# Altium schematic symbol library RHOY.SchLib: 38 symbols
Pins are listed as number, name and electrical type; pins without a type are passive.

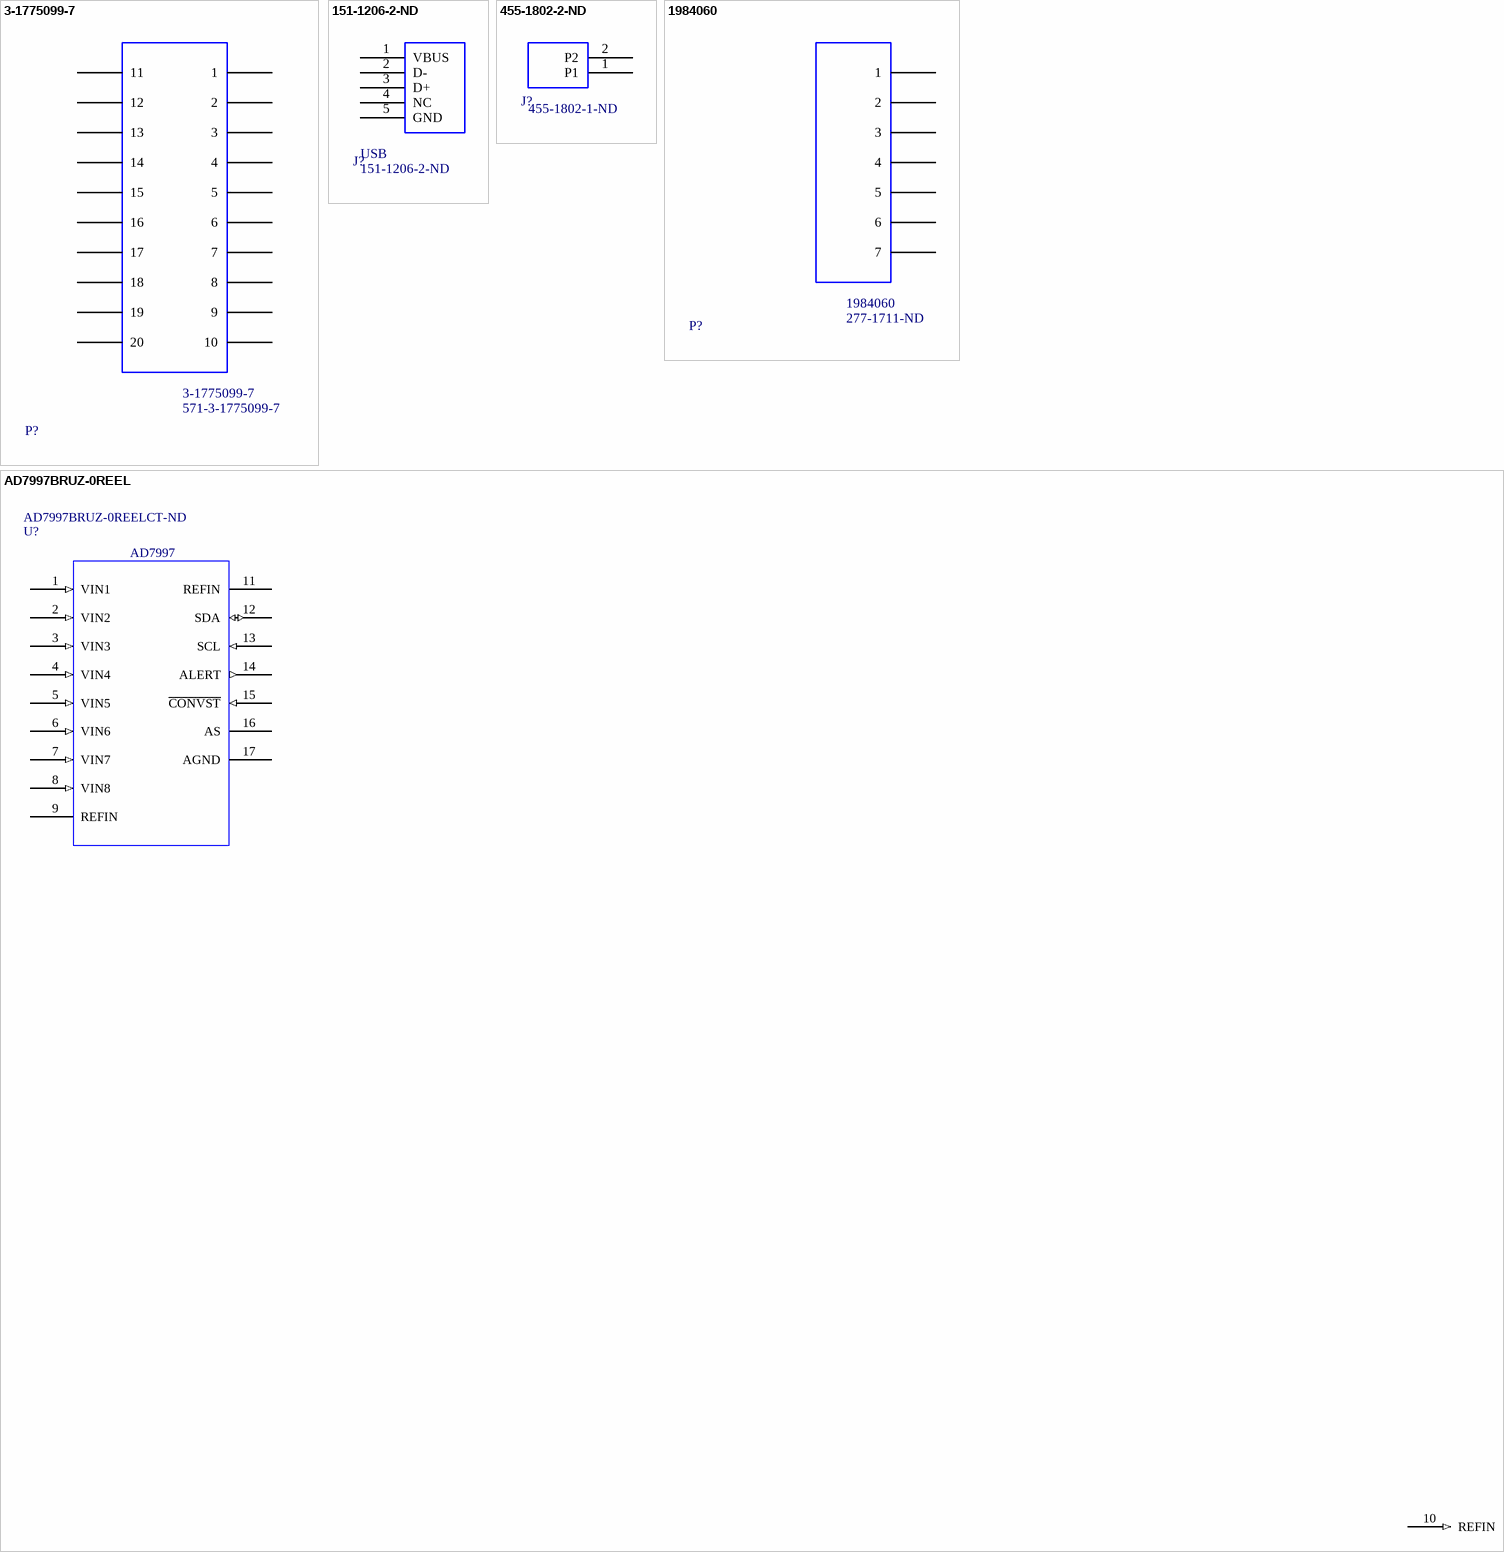
[diagram p0: symbols 3-1775099-7 to AD7997BRUZ-0REEL]

## 3-1775099-7
designator P?  Supplier Part Number 1: 571-3-1775099-7  (hidden comment: 3-1775099-7)
TE Connectivity AMP Connectors; Manufacturer: TE Connectivity / AMP; Supplier 1: Mouser; Manufacturer Part Number: 3-1775099-7; RoHS: RoHS Compliant; Category: Power to the Board; Stock 1: 0; Pricing 1: 6000=0.383 (USD); Packaging: Bulk; Brand: TE Connectivity / AMP; RoHS - Mouser: Y; Minimum Order Quantity: 6000; Reeling: False; ComponentLink1URL: http://www.mouser.com/ds/2/418/NG_CD_1775099_F-617773.pdf; ComponentLink1Description: http://www.mouser.com/ds/2/418/NG_CD_1775099_F-617773.pdf; Value: 3-1775099-7
pins: 1, 2, 3, 4, 5, 6, 7, 8, 9, 10, 11, 12, 13, 14, 15, 16, 17, 18, 19, 20

## 151-1206-2-ND
designator J?  value USB  Supplier Part Number 1: 151-1206-2-ND
Mini USB B port; Manufacturer: EDAC Inc.; Manufacturer Part Number: 690-005-299-043; Connector Type: USB - mini B; Number of Contacts: 5; Gender: Receptacle; Supplier 1: Digi-Key; RoHS: RoHS Compliant; Category: Connectors, Interconnects; Stock 1: 28500; Pricing 1: 750=0.185, 1500=0.166, 3750=0.16, 5250=0.15, 18750=0.135, 37500=0.133, 75000=0.13 (USD); Packaging: Tape & Reel (TR); Specifications: -; Mounting Type: Surface Mount, Right Angle, Horizontal; Features: Board Guide, Solder Retention; Ingress Protection: -; ComponentLink1URL: http://media.digikey.com/pdf/Data%20Sheets/EDAC%20PDFs/690-005-299-043_Dwg.pdf; ComponentLink1Description: http://media.digikey.com/pdf/Data%20Sheets/EDAC%20PDFs/690-005-299-043_Dwg.pdf
pins: 1 VBUS, 2 D-, 3 D+, 4 NC, 5 GND

## 455-1802-2-ND
designator J?  Supplier Part Number 1: 455-1802-1-ND  (hidden comment: 455-1802-2-ND)
JST connector for LiPoly battery; Manufacturer: JST Sales America Inc.; Manufacturer Part Number: SM02B-SRSS-TB(LF)(SN); Connector Type: Header, Shrouded; Number of Positions: 2; Number of Positions Loaded: All; Pitch: 0.039" (1.00mm); Supplier 1: Digi-Key; RoHS: RoHS Compliant; Category: Connectors, Interconnects; Stock 1: 94260; Pricing 1: 1=0.51, 10=0.485, 25=0.4156, 50=0.3532, 100=0.3393, 250=0.30468, 500=0.29084, 1000=0.24237 (USD); Packaging: Cut Tape (CT); Contact Type: Male Pin; Number of Rows: 1; Row Spacing: -; Contact Mating Length: -; Mounting Type: Surface Mount, Right Angle; Termination: Solder; Fastening Type: -; Features: Solder Retention; Contact Finish: Tin; Contact Finish Thickness: -; Color: Natural; ComponentLink1URL: http://www.jst-mfg.com/product/pdf/eng/eSH.pdf; ComponentLink1Description: http://www.jst-mfg.com/product/pdf/eng/eSH.pdf
pins: 1 P1, 2 P2

## 1984060
designator P?  Supplier Part Number 1: 277-1711-ND  (hidden comment: 1984060)
Phoenix Contact 1984060; Number of Positions: 7; Number of Levels: 1; Pitch: 0.138" (3.50mm); Plug Wire Entry: 90° and 180°; Current - IEC: 8A; Voltage - IEC: 400V; Current - UL: 10A; Voltage - UL: 300V; Wire Gauge or Range - AWG: 16-26 AWG; Wire Gauge or Range - mm²: 0.2-1.5mm²; Supplier 1: Digi-Key; Manufacturer: Phoenix Contact; Manufacturer Part Number: 1984060; RoHS: RoHS Compliant; Category: Connectors, Interconnects; Stock 1: 1429; Pricing 1: 1=1.38, 10=1.32, 50=1.284, 100=1.2, 250=1.104, 500=1.02 (USD); Packaging: Bulk; Type: Plug for Unshrouded Header; Positions Per Level: 7; Header Orientation: -; Termination Style: Screw - Clamping Yoke (Tension Sleeve); Mounting Type: Free Hanging (In-Line); Color: Green; Operating Temperature: -; Contact Mating Finish: Tin; Features: -; ComponentLink1URL: http://media.digikey.com/pdf/Data%20Sheets/Phoenix%20Contact%20PDFs/Combicon%20Compact%20Series.pdf; ComponentLink1Description: http://media.digikey.com/pdf/Data%20Sheets/Phoenix%20Contact%20PDFs/Combicon%20Compact%20Series.pdf; Value: 1984060
pins: 1, 2, 3, 4, 5, 6, 7

## AD7997BRUZ-0REEL
designator U?  value AD7997  Supplier Part Number 1: AD7997BRUZ-0REELCT-ND  (hidden comment: AD7997BRUZ-0REEL)
ADC- 8 channel for flex sensors; Manufacturer: Analog Devices Inc.; Number of Bits: 10; Sampling Rate (Per Second): 188k; Number of Inputs: 8; Input Type: Single Ended; Data Interface: I²C; Configuration: MUX-S/H-ADC; Ratio - S/H:ADC: 1:1; Number of A/D Converters: 1; Architecture: SAR; Reference Type: External; Voltage - Supply, Analog: 2.7 V ~ 5.5 V; Supplier 1: Digi-Key; Manufacturer Part Number: AD7997BRUZ-0REEL; RoHS: RoHS Compliant; Category: Integrated Circuits (ICs); Stock 1: 3543; Pricing 1: 1=5.65, 10=5.074, 100=4.1627, 500=3.54142, 1000=2.98224 (USD); Packaging: Cut Tape (CT); Voltage - Supply, Digital: 2.7 V ~ 5.5 V; Features: -; Operating Temperature: -40°C ~ 85°C; Package / Case: 20-TSSOP (0.173", 4.40mm Width); Supplier Device Package: 20-TSSOP; ComponentLink1URL: http://www.analog.com/media/en/technical-documentation/data-sheets/AD7997_7998.pdf; ComponentLink1Description: http://www.analog.com/media/en/technical-documentation/data-sheets/AD7997_7998.pdf
pins: 1 VIN1 (in), 2 VIN2 (in), 3 VIN3 (in), 4 VIN4 (in), 5 VIN5 (in), 6 VIN6 (in), 7 VIN7 (in), 8 VIN8 (in), 9 REFIN, 10 REFIN (in), 11 REFIN, 12 SDA (io), 13 SCL (in), 14 ALERT (out), 15 ~{CONVST} (in), 16 AS, 17 AGND

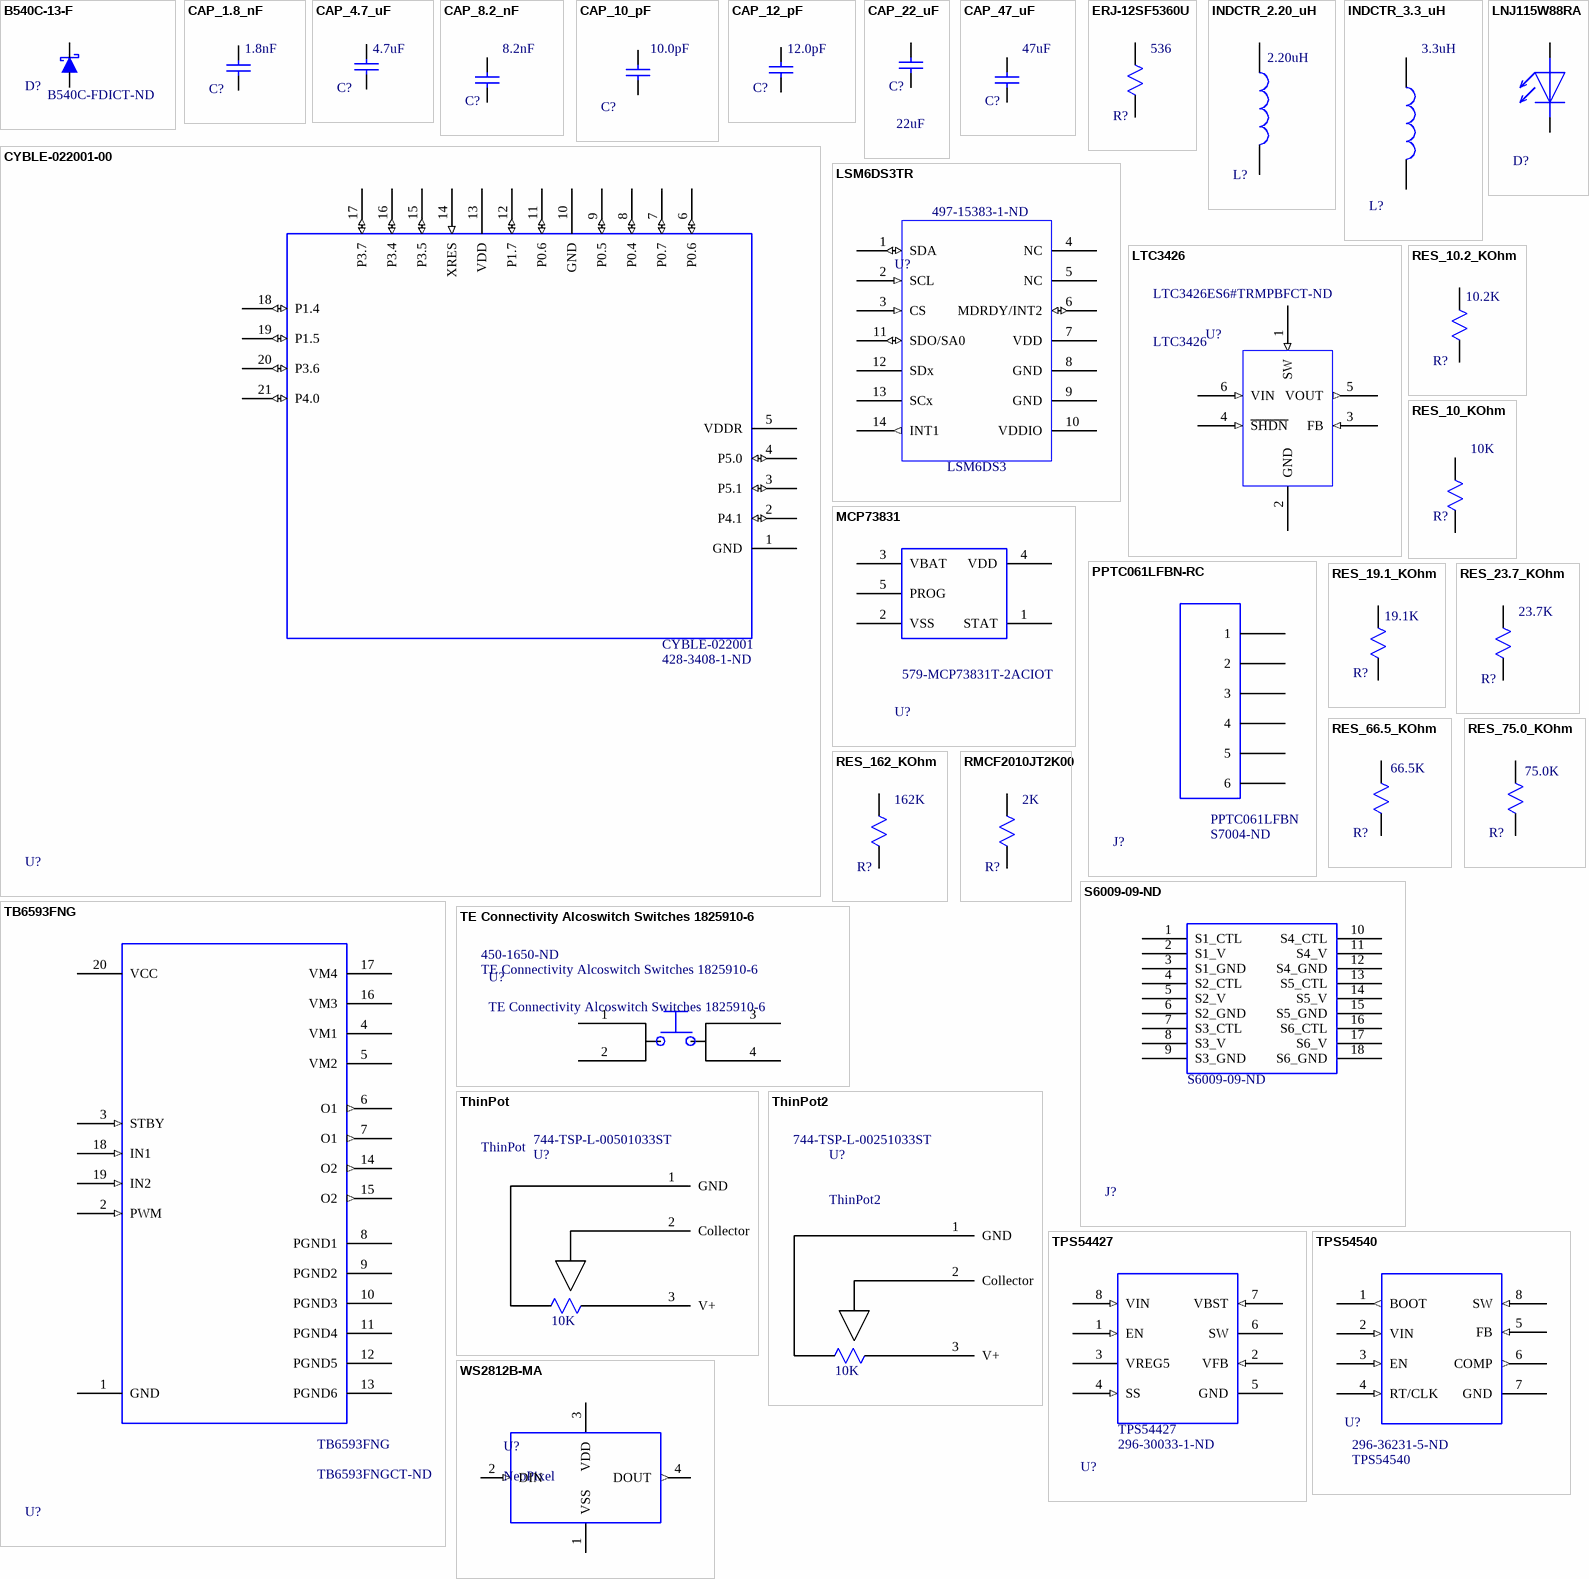
[diagram p1: symbols B540C-13-F to WS2812B-MA]

## B540C-13-F
designator D?  Supplier Part Number 1: B540C-FDICT-ND  (hidden comment: *)
5A pwr regulator diode; Manufacturer: Diodes Incorporated; Manufacturer Part Number: B540C-13-F; Diode Type: Schottky; Voltage - DC Reverse (Vr) (Max): 40V; Voltage - Forward (Vf) (Max) @ If: 550mV @ 5A; Speed: Fast Recovery =< 500ns, > 200mA (Io); Current - Reverse Leakage @ Vr: 500µA @ 40V; Capacitance @ Vr, F: 300pF @ 4V, 1MHz; Supplier 1: Digi-Key; RoHS: RoHS Compliant; Category: Discrete Semiconductor Products; Stock 1: 29411; Pricing 1: 1=0.5, 10=0.426, 100=0.3179, 500=0.2497, 1000=0.1925 (USD); Packaging: Cut Tape (CT); Current - Average Rectified (Io): 5A; Reverse Recovery Time (trr): -; Mounting Type: Surface Mount; Package / Case: DO-214AB, SMC; Supplier Device Package: SMC; Operating Temperature - Junction: -55°C ~ 125°C; ComponentLink1URL: http://www.diodes.com/_files/datasheets/ds13012.pdf; ComponentLink1Description: http://www.diodes.com/_files/datasheets/ds13012.pdf
pins: ?1, ?2

## CAP_1.8_nF
designator C?  value 1.8nF  (hidden comment: CAP_1.8_nF)
CAP_1.8nF; Manufacturer: Murata Electronics North America; Manufacturer Part Number: GRM033R71A182KA01D; Capacitance: 1800pF; Tolerance: ±10%; Voltage - Rated: 10V; Temperature Coefficient: X7R; Supplier 1: Digi-Key; RoHS: RoHS Compliant; Category: Capacitors; Stock 1: 15144; Pricing 1: 1=0.1, 10=0.025, 50=0.0136, 100=0.0116, 250=0.00944, 500=0.00808, 1000=0.0063, 5000=0.00525 (USD); Packaging: Cut Tape (CT); Mounting Type: Surface Mount, MLCC; Operating Temperature: -55°C ~ 125°C; Applications: General Purpose; Ratings: -; Package / Case: 0201 (0603 Metric); Size / Dimension: 0.024" L x 0.012" W (0.60mm x 0.30mm); Height - Seated (Max): -; Thickness (Max): 0.013" (0.33mm); Lead Spacing: -; Features: -; Lead Style: -; ComponentLink1URL: http://www.murata.com/~/media/webrenewal/support/library/catalog/products/capacitor/mlcc/c02e.pdf; ComponentLink1Description: http://www.murata.com/~/media/webrenewal/support/library/catalog/products/capacitor/mlcc/c02e.pdf; Supplier Part Number 1: 490-8160-1-ND
pins: 1, 2

## CAP_4.7_uF
designator C?  value 4.7uF  (hidden comment: CAP_4.7_uF)
CAP_4.7uF; Manufacturer: Kemet; Manufacturer Part Number: C1206C475K4PACTU; Capacitance: 4.7µF; Tolerance: ±10%; Voltage - Rated: 16V; Temperature Coefficient: X5R; Supplier 1: Digi-Key; RoHS: RoHS Compliant; Category: Capacitors; Stock 1: 42893; Pricing 1: 1=0.3, 10=0.205, 50=0.124, 100=0.1042, 250=0.08432, 500=0.0744, 1000=0.06324 (USD); Packaging: Cut Tape (CT); Mounting Type: Surface Mount, MLCC; Operating Temperature: -55°C ~ 85°C; Applications: General Purpose; Ratings: -; Package / Case: 1206 (3216 Metric); Size / Dimension: 0.126" L x 0.063" W (3.20mm x 1.60mm); Height - Seated (Max): -; Thickness (Max): 0.071" (1.80mm); Lead Spacing: -; Features: -; Lead Style: -; ComponentLink1URL: http://www.kemet.com/docfinder?Partnumber=C1206C475K4PACTU; ComponentLink1Description: http://www.kemet.com/docfinder?Partnumber=C1206C475K4PACTU; Supplier Part Number 1: 399-1265-1-ND
pins: 1, 2

## CAP_8.2_nF
designator C?  value 8.2nF  (hidden comment: CAP_8.2_nF)
CAP 8.2; Manufacturer: Murata Electronics; Manufacturer Part Number: GRM033R61A822KA01D; Capacitance: 8200 pF; Tolerance: 10 %; Type: General Purpose MLCC; Voltage Rating DC: 10 VDC; Dielectric: X5R; Supplier 1: Mouser; RoHS: RoHS Compliant; Category: Multilayer Ceramic Capacitors MLCC - SMD/SMT; Stock 1: 45161; Pricing 1: 1=0.100, 10=0.014, 100=0.009, 1000=0.007, 2500=0.006, 15000=0.004, 90000=0.003 (USD); Height: 0.3 mm; Length: 0.6 mm; Package / Case: 0201 (0603 metric); Packaging: Reel; Product: General Type MLCCs; Series: GRM; Termination Style: SMD/SMT; Width: 0.3 mm; Brand: Murata Electronics; Case Code - in: 0201; Case Code - mm: 0603; Maximum Operating Temperature: + 85 C; Minimum Operating Temperature: - 55 C; Standard Pack Qty: 15000; RoHS - Mouser: Y; Minimum Order Quantity: 1; Reeling: True; ComponentLink1URL: http://www.mouser.com/ds/2/281/c02e-2905.pdf; ComponentLink1Description: http://www.mouser.com/ds/2/281/c02e-2905.pdf; Supplier Part Number 1: 81-GRM033R61A822KA1D
pins: 1, 2

## CAP_10_pF
designator C?  value 10.0pF
CAP_10pF; Manufacturer: Kemet; Manufacturer Part Number: C0805C100M4GACTU; Capacitance: 10 pF; Tolerance: 20 %; Type: SMD MLCC C0G 10 - 250 VDC Commercial Grade; Voltage Rating DC: 16 VDC; Class: Class 1; Dielectric: C0G (NP0); Supplier 1: Mouser; RoHS: RoHS Compliant; Category: Multilayer Ceramic Capacitors MLCC - SMD/SMT; Stock 1: 24632; Pricing 1: 1=0.100, 10=0.028, 100=0.017, 1000=0.013, 4000=0.011, 8000=0.010, 24000=0.009, 48000=0.008, 100000=0.007 (USD); Height: -; Length: 2 mm; Package / Case: 0805 (2012 metric); Packaging: Reel; Product: General Type MLCCs; Series: C0805C; Termination Style: SMD/SMT; Voltage Rating AC: -; Width: 1.2 mm; Brand: Kemet; Case Code - in: 0805; Case Code - mm: 2012; Maximum Operating Temperature: + 125 C; Minimum Operating Temperature: - 55 C; Product Category: 0805 SMD Ceramic Chip Capacitors; Standard Pack Qty: 4000; RoHS - Mouser: Y; Minimum Order Quantity: 1; Reeling: True; ComponentLink1URL: http://www.mouser.com/ds/2/212/KEM_C1003_C0G_SMD-356956.pdf; ComponentLink1Description: http://www.mouser.com/ds/2/212/KEM_C1003_C0G_SMD-356956.pdf; Supplier Part Number 1: 80-C0805C100M4G
pins: 1, 2

## CAP_12_pF
designator C?  value 12.0pF  (hidden comment: CAP_12_pF)
CAP_12pF; Manufacturer: Yageo; Manufacturer Part Number: CC0805JRNPO9BN120; Capacitance: 12pF; Tolerance: ±5%; Voltage - Rated: 50V; Temperature Coefficient: C0G, NP0; Supplier 1: Digi-Key; RoHS: RoHS Compliant; Category: Capacitors; Stock 1: 44000; Pricing 1: 4000=0.0128, 8000=0.01169, 12000=0.01113, 28000=0.01057, 100000=0.00765 (USD); Packaging: Tape & Reel (TR); Mounting Type: Surface Mount, MLCC; Operating Temperature: -55°C ~ 125°C; Applications: General Purpose; Ratings: -; Package / Case: 0805 (2012 Metric); Size / Dimension: 0.079" L x 0.049" W (2.00mm x 1.25mm); Height - Seated (Max): -; Thickness (Max): 0.024" (0.60mm); Lead Spacing: -; Features: -; Lead Style: -; ComponentLink1URL: http://www.yageo.com/documents/recent/UPY-GP_NP0_16V-to-50V_10.pdf; ComponentLink1Description: http://www.yageo.com/documents/recent/UPY-GP_NP0_16V-to-50V_10.pdf; Supplier Part Number 1: 311-1100-2-ND
pins: 1, 2

## CAP_22_uF
designator C?  value 22uF  (hidden comment: CAP_22_uF)
CAP 22uF; Manufacturer: AVX; Manufacturer Part Number: 1210YD226KAT2A; Capacitance: 22 F; Capacitance Tolerance: 10%; Dielectric Characteristic: X5; Voltage Rating: 16; Ceramic Capacitor Case: 1210 [3225 Metric]; Supplier 1: Newark; RoHS: YES; Stock 1: 759; Pricing 1: 1=0.2, 10=0.2, 100=0.2, 250=0.2, 500=0.2 (USD); Product Range: -; Packaging: Cut Tape; ComponentLink1URL: http://www.avx.com/docs/Catalogs/cpack.pdf; ComponentLink1Description: http://www.avx.com/docs/Catalogs/cpack.pdf; ComponentLink2URL: http://www.farnell.com/datasheets/1796776.pdf; ComponentLink2Description: http://www.farnell.com/datasheets/1796776.pdf; Supplier Part Number 1: 84K8411
pins: 1, 2

## CAP_47_uF
designator C?  value 47uF  (hidden comment: CAP_47_uF)
CAP 47uF; Manufacturer: TDK Corporation; Manufacturer Part Number: C3216X5R1E476M160AC; Capacitance: 47µF; Tolerance: ±20%; Voltage - Rated: 25V; Temperature Coefficient: X5R; Supplier 1: Digi-Key; RoHS: RoHS Compliant; Category: Capacitors; Stock 1: 119209; Pricing 1: 1=1.25, 10=1.025, 100=0.725, 250=0.6, 500=0.5375, 1000=0.475 (USD); Packaging: Cut Tape (CT); Mounting Type: Surface Mount, MLCC; Operating Temperature: -55°C ~ 85°C; Applications: General Purpose; Ratings: -; Package / Case: 1206 (3216 Metric); Size / Dimension: 0.126" L x 0.063" W (3.20mm x 1.60mm); Height - Seated (Max): -; Thickness (Max): -; Lead Spacing: -; Features: -; Lead Style: -; ComponentLink1URL: https://product.tdk.com/info/en/catalog/datasheets/mlcc_commercial_general_en.pdf; ComponentLink1Description: https://product.tdk.com/info/en/catalog/datasheets/mlcc_commercial_general_en.pdf; Supplier Part Number 1: 445-8047-1-ND
pins: 1, 2

## CYBLE-022001-00
designator U?  value CYBLE-022001  Supplier Part Number 1: 428-3408-1-ND  (hidden comment: CYBLE-022001-00)
EZ-BLE PRoC Module; Manufacturer: Cypress Semiconductor Corp; RF Family/Standard: Bluetooth; Protocol: Bluetooth v4.1 Low Energy (BLE); Frequency: 2.4GHz; Data Rate: 1Mbps; Power - Output: 3dBm; Sensitivity: -91dBm; Serial Interfaces: I²C, SPI, UART; Antenna Type: Integrated, Chip; Memory Size: 128kB Flash, 16kB SRAM; Voltage - Supply: 1.8 V ~ 4.5 V; Current - Receiving: 16.4mA; Current - Transmitting: 15.6mA; Supplier 1: Digi-Key; Manufacturer Part Number: CYBLE-022001-00; RoHS: RoHS Compliant; Category: RF/IF and RFID; Stock 1: 1211; Pricing 1: 1=11.9, 25=10.0084, 100=9.4675, 250=8.656 (USD); Packaging: Cut Tape (CT); Modulation: -; Mounting Type: Surface Mount; Operating Temperature: -40°C ~ 85°C; Package / Case: Module; ComponentLink1URL: http://www.cypress.com/file/140791/download; ComponentLink1Description: http://www.cypress.com/file/140791/download
footprint CYPRESS_CYBLE-022001 (EZ-BLE PRoC Module)
pins: 1 GND, 2 P4.1 (io), 3 P5.1 (io), 4 P5.0 (io), 5 VDDR, 6 P0.6 (io), 7 P0.7 (io), 8 P0.4 (io), 9 P0.5 (io), 10 GND, 11 P0.6 (io), 12 P1.7 (io), 13 VDD, 14 XRES (in), 15 P3.5 (io), 16 P3.4 (io), 17 P3.7 (io), 18 P1.4 (io), 19 P1.5 (io), 20 P3.6 (io), 21 P4.0 (io)

## ERJ-12SF5360U
designator R?  value 536  (hidden comment: *)
536 Ohm Resistor; Manufacturer: Panasonic Electronic Components; Manufacturer Part Number: ERJ-12SF5360U; Tolerance: ±1%; Power (Watts): 0.75W, 3/4W; Temperature Coefficient: ±100ppm/°C; Supplier 1: Digi-Key; RoHS: RoHS Compliant; Category: Resistors; Stock 1: 7146; Pricing 1: 1=0.4, 50=0.1786, 100=0.1324, 250=0.10164, 500=0.08008, 1000=0.05544 (USD); Packaging: Cut Tape (CT); Resistance (Ohms): 536; Composition: Thick Film; Features: Automotive AEC-Q200; Operating Temperature: -55°C ~ 155°C; Package / Case: 2010 (5025 Metric); Supplier Device Package: 2010; Size / Dimension: 0.197" L x 0.098" W (5.00mm x 2.50mm); Height: 0.028" (0.70mm); Number of Terminations: 2; ComponentLink1URL: http://industrial.panasonic.com/www-cgi/jvcr13pz.cgi?E+PZ+3+AOA0002+ERJ12SF5360U+7+WW; ComponentLink1Description: http://industrial.panasonic.com/www-cgi/jvcr13pz.cgi?E+PZ+3+AOA0002+ERJ12SF5360U+7+WW; Supplier Part Number 1: P536ACCT-ND
pins: 1, 2

## INDCTR_2.20_uH
designator L?  value 2.20uH  (hidden comment: INDCTR_2.20_uH)
Inductor 2.2uH; Manufacturer: Bourns Inc.; Manufacturer Part Number: SRN8040-2R2Y; Type: Wirewound; Material - Core: Ferrite; Inductance: 2.2µH; Tolerance: ±30%; Current Rating: 6.3A; Current - Saturation: 7.4A; Shielding: Shielded; DC Resistance (DCR): 13 mOhm Max; Q @ Freq: 13 @ 7.96MHz; Frequency - Self Resonant: 40MHz; Frequency - Test: 100kHz; Supplier 1: Digi-Key; RoHS: RoHS Compliant; Category: Inductors, Coils, Chokes; Stock 1: 3527; Pricing 1: 1=0.58, 10=0.512, 25=0.48, 50=0.416, 100=0.384, 250=0.3648, 500=0.3328 (USD); Packaging: Cut Tape (CT); Ratings: -; Operating Temperature: -40°C ~ 125°C; Mounting Type: Surface Mount; Package / Case: Nonstandard; Size / Dimension: 0.315" L x 0.315" W (8.00mm x 8.00mm); Height - Seated (Max): 0.157" (4.00mm); ComponentLink1URL: http://www.bourns.com/docs/Product-Datasheets/SRN8040.pdf; ComponentLink1Description: http://www.bourns.com/docs/Product-Datasheets/SRN8040.pdf; Supplier Part Number 1: SRN8040-2R2YCT-ND
pins: ?1, ?2

## INDCTR_3.3_uH
designator L?  value 3.3uH
Inductor 3.3uH; Manufacturer: Bourns; Manufacturer Part Number: SDR1307-3R3ML; Maximum DC Current: 7.5 A; Maximum DC Resistance: 8.7 mOhms; Q Minimum: 26; Self Resonant Frequency: 38 MHz; Tolerance: 20 %; Supplier 1: Mouser; RoHS: RoHS Compliant; Category: Fixed Inductors; Stock 1: 344; Pricing 1: 1=0.830, 10=0.728, 50=0.624, 100=0.593, 250=0.507, 400=0.437, 800=0.346, 2400=0.337 (USD); Diameter: 13 mm; Height: 7 mm; Inductance: 3.3 uH; Packaging: Reel; Product: Power Inductors; Series: SDR1307; Termination Style: SMD/SMT; Width: 13 mm; Brand: Bourns; Mounting Style: SMD/SMT; Product Category: Inductors; Standard Pack Qty: 400; RoHS - Mouser: Y; Minimum Order Quantity: 1; Reeling: True; ComponentLink1URL: http://www.mouser.com/ds/2/54/DR1307-778385.pdf; ComponentLink1Description: http://www.mouser.com/ds/2/54/DR1307-778385.pdf; Supplier Part Number 1: 652-SDR1307-3R3ML
pins: ?1, ?2

## LNJ115W88RA
designator D?  (value not drawn)
Charger Indicator LED; Manufacturer: Panasonic; Manufacturer Part Number: LNJ115W88RA; Illumination Color: Amber, Green; LED Size: 1.6 mm x 1.25 mm x 0.55 mm; Product Status: Obsolete; Supplier 1: Mouser; RoHS: RoHS Compliant; Category: Standard LEDs - SMD; Stock 1: 0; Package / Case: 0605; Packaging: Reel; Series: LN; Brand: Panasonic; Mounting Style: SMD/SMT; Standard Pack Qty: 5000; RoHS - Mouser: Y; Minimum Order Quantity: 1; Reeling: True; ComponentLink1URL: http://industrial.panasonic.com/www-cgi/jvcr13pz.cgi?E+SC+4+ATA7006+LNJ115W88RA+8+WW; ComponentLink1Description: http://industrial.panasonic.com/www-cgi/jvcr13pz.cgi?E+SC+4+ATA7006+LNJ115W88RA+8+WW; Supplier Part Number 1: 667-LNJ115W88RA
pins: ?1, ?2

## LSM6DS3TR
designator U?  value LSM6DS3  Supplier Part Number 1: 497-15383-1-ND  (hidden comment: LSM6DS3TR)
Gyroscope and accelerometer module; Manufacturer: STMicroelectronics; Sensor Type: Accelerometer, Gyroscope, 3 Axis; Output Type: I²C, SPI; Supplier 1: Digi-Key; Manufacturer Part Number: LSM6DS3TR; RoHS: RoHS Compliant; Category: Sensors, Transducers; Stock 1: 4972; Pricing 1: 1=4.18, 10=3.749, 100=3.0753, 500=2.6163, 1000=2.2032 (USD); Operating Temperature: -40°C ~ 85°C (TA); ComponentLink1URL: http://www.st.com/web/en/resource/technical/document/datasheet/DM00133076.pdf; ComponentLink1Description: http://www.st.com/web/en/resource/technical/document/datasheet/DM00133076.pdf
pins: 1 SDA (io), 2 SCL (in), 3 CS (in), 4 NC, 5 NC, 6 MDRDY/INT2 (io), 7 VDD, 8 GND, 9 GND, 10 VDDIO, 11 SDO/SA0 (io), 12 SDx, 13 SCx, 14 INT1 (out)

## LTC3426
designator U?  Supplier Part Number 1: LTC3426ES6#TRMPBFCT-ND  (hidden comment: LTC3426)
Voltage Step Up 3.6V to 5V for ADC; Manufacturer: Linear Technology; Manufacturer Part Number: LTC3426ES6#TRMPBF; Function: Step-Up; Output Configuration: Positive; Topology: Boost; Output Type: Adjustable; Number of Outputs: 1; Voltage - Input (Min): 1.6V; Voltage - Input (Max): 4.3V; Voltage - Output (Min/Fixed): 2.25V; Current - Output: 2A (Switch); Frequency - Switching: 1.2MHz; Synchronous Rectifier: No; Supplier 1: Digi-Key; RoHS: RoHS Compliant; Category: Integrated Circuits (ICs); Stock 1: 4175; Pricing 1: 1=4.16, 25=3.7184, 100=3.3467 (USD); Packaging: Cut Tape (CT); Voltage - Output (Max): 5V; Operating Temperature: -40°C ~ 85°C (TA); Mounting Type: Surface Mount; Package / Case: SOT-23-6 Thin, TSOT-23-6; Supplier Device Package: TSOT-23-6; ComponentLink1URL: http://www.linear.com/docs/6025; ComponentLink1Description: http://www.linear.com/docs/6025; Value: LTC3426
footprint SOT95P262X100-6N (SOT23, 6-Leads, Body 2.95x2.63mm, Pitch 0.95mm, IPC Medium Density)
pins: 1 SW (in), 2 GND, 3 FB (in), 4 ~{SHDN} (in), 5 VOUT (out), 6 VIN (in)

## MCP73831
designator U?  Supplier Part Number 1: 579-MCP73831T-2ACIOT  (hidden comment: MCP73831)
Li-Polymer Charge Management Controller; Manufacturer: Microchip Technology; Manufacturer Part Number: MCP73831T-2ACI/OT; Output Current: 15 mA to 500 mA; Output Voltage: 4.2 V; Battery Type: Li-Ion, Li-Polymer; Operating Supply Voltage: 3.75 V to 6 V; Supplier 1: Mouser; RoHS: RoHS Compliant; Category: Battery Management; Stock 1: 22271; Pricing 1: 1=0.600, 10=0.560, 25=0.470, 100=0.420, 3000=0.420 (USD); Package / Case: SOT-23; Packaging: Reel; Series: MCP73831/2; Brand: Microchip Technology; Mounting Style: SMD/SMT; Maximum Operating Temperature: + 85 C; Minimum Operating Temperature: - 40 C; Product Category: Battery Management; Standard Pack Qty: 3000; RoHS - Mouser: Y; Minimum Order Quantity: 1; Reeling: True; ComponentLink1URL: http://www.mouser.com/ds/2/268/20001984g-846362.pdf; ComponentLink1Description: http://www.mouser.com/ds/2/268/20001984g-846362.pdf
pins: 1 STAT, 2 VSS, 3 VBAT, 4 VDD, 5 PROG

## PPTC061LFBN-RC
designator J?  value PPTC061LFBN  Supplier Part Number 1: S7004-ND  (hidden comment: PPTC061LFBN-RC)
6-Position Female Header; Manufacturer: Sullins Connector Solutions; Number of Positions: 6; Number of Positions Loaded: All; Pitch: 0.100" (2.54mm); Supplier 1: Digi-Key; Manufacturer Part Number: PPTC061LFBN-RC; RoHS: RoHS Compliant; Category: Connectors, Interconnects; Stock 1: 6973; Pricing 1: 1=0.68, 10=0.528, 25=0.4924, 50=0.4476, 100=0.4028, 250=0.34012, 500=0.3222, 1000=0.2864, 2500=0.23807 (USD); Packaging: Bulk; Connector Type: Header; Contact Type: Female Socket; Number of Rows: 1; Row Spacing: -; Mounting Type: Through Hole; Termination: Solder; Fastening Type: -; Features: -; Contact Finish: Tin; Contact Finish Thickness: -; Color: Black; ComponentLink1URL: http://www.sullinscorp.com/drawings/78_P(N)PxCxxxLFBN-RC,_10492-H.pdf; ComponentLink1Description: http://www.sullinscorp.com/drawings/78_P(N)PxCxxxLFBN-RC,_10492-H.pdf
pins: 1, 2, 3, 4, 5, 6

## RES_10.2_KOhm
designator R?  value 10.2K  (hidden comment: RES_10.2_KOhm)
RES_10.2K; Manufacturer: Vishay / Dale; Manufacturer Part Number: CRCW040210K2FKED; Power Rating: 63 mW; Resistance: 10.2 kOhms; Temperature Coefficient: 100 PPM / K; Tolerance: 1 %; Voltage Rating: 50 V; Supplier 1: Mouser; RoHS: RoHS Compliant By Exemption; Category: Thick Film Resistors - SMD; Stock 1: 30506; Pricing 1: 1=0.100, 10=0.045, 100=0.026, 1000=0.018, 10000=0.006, 30000=0.005, 50000=0.004, 250000=0.003 (USD); Height: 0.35 mm; Length: 1 mm; Operating Temperature Range: - 55 C to + 155 C; Package / Case: 0402 (1005 metric); Packaging: Reel; Product: Thick Film Resistors SMD; Series: CRCW; Termination Style: SMD/SMT; Width: 0.5 mm; Brand: Vishay / Dale; Case Code - in: 0402; Case Code - mm: 1005; Product Category: 0402 Thick Film Chip Resistors; Standard Pack Qty: 10000; RoHS - Mouser: E; Minimum Order Quantity: 1; Reeling: True; ComponentLink1URL: http://www.mouser.com/ds/2/427/dcrcwe3-109170.pdf; ComponentLink1Description: http://www.mouser.com/ds/2/427/dcrcwe3-109170.pdf; Supplier Part Number 1: 71-CRCW0402-10.2K-E3
pins: 1, 2

## RES_10_KOhm
designator R?  value 10K  (hidden comment: RES_10_KOhm)
RES 10K; Manufacturer: Vishay Dale; Manufacturer Part Number: CRCW040210K0FKED; Tolerance: ±1%; Power (Watts): 0.063W, 1/16W; Temperature Coefficient: ±100ppm/°C; Supplier 1: Digi-Key; RoHS: RoHS Compliant; Category: Resistors; Stock 1: 2360512; Pricing 1: 10=0.083, 50=0.0444, 200=0.0255, 1000=0.0174 (USD); Packaging: Cut Tape (CT); Resistance (Ohms): 10k; Composition: Thick Film; Features: Automotive AEC-Q200; Operating Temperature: -55°C ~ 155°C; Package / Case: 0402 (1005 Metric); Supplier Device Package: 0402 (1005 Metric); Size / Dimension: 0.039" L x 0.020" W (1.00mm x 0.50mm); Height: 0.016" (0.40mm); Number of Terminations: 2; ComponentLink1URL: http://www.vishay.com/docs/20035/dcrcwe3.pdf; ComponentLink1Description: http://www.vishay.com/docs/20035/dcrcwe3.pdf; Supplier Part Number 1: 541-10.0KLCT-ND
pins: 1, 2

## RES_19.1_KOhm
designator R?  value 19.1K  (hidden comment: *)
RES_19.1K; Manufacturer: Vishay / Dale; Manufacturer Part Number: CRCW040219K1FKED; Power Rating: 63 mW; Resistance: 19.1 kOhms; Temperature Coefficient: 100 PPM / K; Tolerance: 1 %; Voltage Rating: 50 V; Supplier 1: Mouser; RoHS: RoHS Compliant By Exemption; Category: Thick Film Resistors - SMD; Stock 1: 27834; Pricing 1: 1=0.100, 10=0.045, 100=0.026, 1000=0.018, 10000=0.006, 30000=0.005, 50000=0.004, 250000=0.003 (USD); Height: 0.35 mm; Length: 1 mm; Operating Temperature Range: - 55 C to + 155 C; Package / Case: 0402 (1005 metric); Packaging: Reel; Product: Thick Film Resistors SMD; Series: CRCW; Termination Style: SMD/SMT; Width: 0.5 mm; Brand: Vishay / Dale; Case Code - in: 0402; Case Code - mm: 1005; Product Category: 0402 Thick Film Chip Resistors; Standard Pack Qty: 10000; RoHS - Mouser: E; Minimum Order Quantity: 1; Reeling: True; ComponentLink1URL: http://www.mouser.com/ds/2/427/dcrcwe3-109170.pdf; ComponentLink1Description: http://www.mouser.com/ds/2/427/dcrcwe3-109170.pdf; Supplier Part Number 1: 71-CRCW0402-19.1K-E3
pins: 1, 2

## RES_23.7_KOhm
designator R?  value 23.7K  (hidden comment: RES_23.7_KOhm)
RES 23.7K; Manufacturer: Vishay Dale; Manufacturer Part Number: CRCW040223K7FKED; Tolerance: ±1%; Power (Watts): 0.063W, 1/16W; Temperature Coefficient: ±100ppm/°C; Supplier 1: Digi-Key; RoHS: RoHS Compliant; Category: Resistors; Stock 1: 58875; Pricing 1: 10=0.083, 50=0.0444, 200=0.0255, 1000=0.0174 (USD); Packaging: Cut Tape (CT); Resistance (Ohms): 23.7k; Composition: Thick Film; Features: Automotive AEC-Q200; Operating Temperature: -55°C ~ 155°C; Package / Case: 0402 (1005 Metric); Supplier Device Package: 0402 (1005 Metric); Size / Dimension: 0.039" L x 0.020" W (1.00mm x 0.50mm); Height: 0.016" (0.40mm); Number of Terminations: 2; ComponentLink1URL: http://www.vishay.com/docs/20035/dcrcwe3.pdf; ComponentLink1Description: http://www.vishay.com/docs/20035/dcrcwe3.pdf; Supplier Part Number 1: 541-23.7KLCT-ND
pins: 1, 2

## RES_66.5_KOhm
designator R?  value 66.5K  (hidden comment: RES_66.5_KOhm)
RES_66.5K; Manufacturer: Vishay / Dale; Manufacturer Part Number: CRCW040266K5FKED; Power Rating: 63 mW; Resistance: 66.5 kOhms; Temperature Coefficient: 100 PPM / K; Tolerance: 1 %; Voltage Rating: 50 V; Supplier 1: Mouser; RoHS: RoHS Compliant By Exemption; Category: Thick Film Resistors - SMD; Stock 1: 32930; Pricing 1: 1=0.100, 10=0.045, 100=0.026, 1000=0.018, 10000=0.006, 30000=0.005, 50000=0.004, 250000=0.003 (USD); Height: 0.35 mm; Length: 1 mm; Operating Temperature Range: - 55 C to + 155 C; Package / Case: 0402 (1005 metric); Packaging: Reel; Product: Thick Film Resistors SMD; Series: CRCW; Termination Style: SMD/SMT; Width: 0.5 mm; Brand: Vishay / Dale; Case Code - in: 0402; Case Code - mm: 1005; Product Category: 0402 Thick Film Chip Resistors; Standard Pack Qty: 10000; RoHS - Mouser: E; Minimum Order Quantity: 1; Reeling: True; ComponentLink1URL: http://www.mouser.com/ds/2/427/dcrcwe3-109170.pdf; ComponentLink1Description: http://www.mouser.com/ds/2/427/dcrcwe3-109170.pdf; Supplier Part Number 1: 71-CRCW0402-66.5K-E3
pins: 1, 2

## RES_75.0_KOhm
designator R?  value 75.0K  (hidden comment: *)
RES_75K; Manufacturer: Vishay / Dale; Manufacturer Part Number: CRCW040275K0FKED; Power Rating: 63 mW; Resistance: 75 kOhms; Temperature Coefficient: 100 PPM / K; Tolerance: 1 %; Voltage Rating: 50 V; Supplier 1: Mouser; RoHS: RoHS Compliant By Exemption; Category: Thick Film Resistors - SMD; Stock 1: 73431; Pricing 1: 1=0.100, 10=0.045, 100=0.026, 1000=0.018, 10000=0.006, 30000=0.005, 50000=0.004, 250000=0.003 (USD); Height: 0.35 mm; Length: 1 mm; Operating Temperature Range: - 55 C to + 155 C; Package / Case: 0402 (1005 metric); Packaging: Reel; Product: Thick Film Resistors SMD; Series: CRCW; Termination Style: SMD/SMT; Width: 0.5 mm; Brand: Vishay / Dale; Case Code - in: 0402; Case Code - mm: 1005; Product Category: 0402 Thick Film Chip Resistors; Standard Pack Qty: 10000; RoHS - Mouser: E; Minimum Order Quantity: 1; Reeling: True; ComponentLink1URL: http://www.mouser.com/ds/2/427/dcrcwe3-109170.pdf; ComponentLink1Description: http://www.mouser.com/ds/2/427/dcrcwe3-109170.pdf; Supplier Part Number 1: 71-CRCW0402-75K-E3
pins: 1, 2

## RES_162_KOhm
designator R?  value 162K  (hidden comment: RES_162_KOhm)
RES 162K; Manufacturer: Vishay Dale; Manufacturer Part Number: CRCW0402162KFKED; Tolerance: ±1%; Power (Watts): 0.063W, 1/16W; Temperature Coefficient: ±100ppm/°C; Supplier 1: Digi-Key; RoHS: RoHS Compliant; Category: Resistors; Stock 1: 203075; Pricing 1: 10=0.083, 50=0.0444, 200=0.0255, 1000=0.0174 (USD); Packaging: Cut Tape (CT); Resistance (Ohms): 162k; Composition: Thick Film; Features: Automotive AEC-Q200; Operating Temperature: -55°C ~ 155°C; Package / Case: 0402 (1005 Metric); Supplier Device Package: 0402 (1005 Metric); Size / Dimension: 0.039" L x 0.020" W (1.00mm x 0.50mm); Height: 0.016" (0.40mm); Number of Terminations: 2; ComponentLink1URL: http://www.vishay.com/docs/20035/dcrcwe3.pdf; ComponentLink1Description: http://www.vishay.com/docs/20035/dcrcwe3.pdf; Supplier Part Number 1: 541-162KLCT-ND
pins: 1, 2

## RMCF2010JT2K00
designator R?  value 2K  (hidden comment: *)
2KOhm; Manufacturer: Stackpole Electronics Inc.; Manufacturer Part Number: RMCF2010JT2K00; Tolerance: ±5%; Power (Watts): 0.75W, 3/4W; Temperature Coefficient: ±200ppm/°C; Supplier 1: Digi-Key; RoHS: RoHS Compliant; Category: Resistors; Stock 1: 48064; Pricing 1: 1=0.21, 10=0.182, 50=0.0958, 100=0.071, 250=0.05444, 500=0.0429, 1000=0.0297 (USD); Packaging: Cut Tape (CT); Resistance (Ohms): 2k; Composition: Thick Film; Features: Automotive AEC-Q200; Operating Temperature: -55°C ~ 155°C; Package / Case: 2010 (5025 Metric); Supplier Device Package: 2010; Size / Dimension: 0.197" L x 0.098" W (5.00mm x 2.50mm); Height: 0.028" (0.70mm); Number of Terminations: 2; ComponentLink1URL: http://www.seielect.com/Catalog/SEI-RMCF_RMCP.pdf; ComponentLink1Description: http://www.seielect.com/Catalog/SEI-RMCF_RMCP.pdf; Supplier Part Number 1: RMCF2010JT2K00CT-ND
pins: 1, 2

## S6009-09-ND
designator J?
Connection for Servos to PCB; Manufacturer: Sullins Connector Solutions; Manufacturer Part Number: NRPN092MAMS-RC; Connector Type: Header, Unshrouded; Number of Positions: 18; Number of Positions Loaded: All; Pitch: 0.079" (2.00mm); Supplier 1: Digi-Key; RoHS: RoHS Compliant; Category: Connectors, Interconnects; Stock 1: 2299; Pricing 1: 1=1.9, 10=1.57, 25=1.4716, 50=1.308, 100=1.1772, 250=1.08564, 500=0.981, 1000=0.86982, 2500=0.83385 (USD); Packaging: Bulk; Contact Type: Male Pin; Number of Rows: 2; Row Spacing: 0.079" (2.00mm); Contact Mating Length: 0.141" (3.60mm); Mounting Type: Surface Mount; Termination: Solder; Fastening Type: -; Features: -; Contact Finish: Gold; Contact Finish Thickness: Flash; Color: Black; ComponentLink1URL: http://sullinscorp.com/drawings/91_NRPNxx2MAMx-RC,_10495-D.pdf; ComponentLink1Description: http://sullinscorp.com/drawings/91_NRPNxx2MAMx-RC,_10495-D.pdf; Supplier Part Number 1: S6009-09-ND
pins: 1 S1_CTL, 2 S1_V, 3 S1_GND, 4 S2_CTL, 5 S2_V, 6 S2_GND, 7 S3_CTL, 8 S3_V, 9 S3_GND, 10 S4_CTL, 11 S4_V, 12 S4_GND, 13 S5_CTL, 14 S5_V, 15 S5_GND, 16 S6_CTL, 17 S6_V, 18 S6_GND

## TB6593FNG
designator U?  Supplier Part Number 1: TB6593FNGCT-ND  (hidden comment: TB6593FNG)
DC Motor Driver IC; Manufacturer: Toshiba Semiconductor and Storage; Manufacturer Part Number: TB6593FNG(O,EL); Motor Type - AC, DC: Brushed DC; Function: Driver - Fully Integrated, Control and Power Stage; Output Configuration: Half Bridge (2); Interface: PWM; Current - Output: 1A; Voltage - Supply: 2.7 V ~ 5.5 V; Voltage - Load: 2.5 V ~ 13.5 V; Supplier 1: Digi-Key; RoHS: RoHS Compliant; Category: Integrated Circuits (ICs); Stock 1: 2894; Pricing 1: 1=2.65, 10=2.39, 25=2.1416, 100=1.9256, 250=1.7098, 500=1.494, 1000=1.2367 (USD); Packaging: Cut Tape (CT); Motor Type - Stepper: -; Technology: Power MOSFET; Step Resolution: -; Applications: General Purpose; Operating Temperature: -20°C ~ 85°C (TA); Mounting Type: Surface Mount; Package / Case: 20-LSSOP (0.173", 4.40mm Width); Supplier Device Package: 20-SSOP; ComponentLink1URL: http://toshiba.semicon-storage.com/info/docget.jsp?did=10658&prodName=TB6593FNG; ComponentLink1Description: http://toshiba.semicon-storage.com/info/docget.jsp?did=10658&prodName=TB6593FNG; Value: TB6593FNG
footprint TSOP65P640X160-20N (TSOP, 20-Leads, Body 6.65x4.40mm, Pitch 0.65mm, IPC Medium Density)
pins: 1 GND, 2 PWM (in), 3 STBY (in), 4 VM1, 5 VM2, 6 O1 (out), 7 O1 (out), 8 PGND1, 9 PGND2, 10 PGND3, 11 PGND4, 12 PGND5, 13 PGND6, 14 O2 (out), 15 O2 (out), 16 VM3, 17 VM4, 18 IN1 (in), 19 IN2 (in), 20 VCC

## TE Connectivity Alcoswitch Switches 1825910-6
designator U?  Supplier Part Number 1: 450-1650-ND
Push buttons to handle playback; Circuit: SPST-NO; Switch Function: Off-Mom; Contact Rating @ Voltage: 0.05A @ 24VDC; Actuator Type: Standard; Actuator Height off PCB, from Pins: 5.00mm; Actuator Orientation: Top Actuated; Outline: 6.00mm x 6.00mm; Illumination: Non-Illuminated; Operating Force: 160gf; Actuator Material: Polybutylene Terephthalate (PBT); Switch Travel: 0.25mm; Mechanical Life: 100,000 Cycles; Supplier 1: Digi-Key; Manufacturer: TE Connectivity Alcoswitch Switches; Manufacturer Part Number: 1825910-6; RoHS: RoHS Compliant; Category: Switches; Stock 1: 50462; Pricing 1: 1=0.11, 25=0.1012, 50=0.0912, 100=0.0869, 250=0.08028, 500=0.07698, 1000=0.06268, 2000=0.05609, 5000=0.05278 (USD); Packaging: Bulk; Mounting Type: Through Hole; Termination Style: PC Pin; Illumination Voltage (Nominal): -; Illumination Type, Color: -; Ingress Protection: -; Features: -; Operating Temperature: -35°C ~ 85°C; ComponentLink1URL: http://www.te.com/commerce/DocumentDelivery/DDEController?Action=srchrtrv&DocNm=1825910&DocType=Customer+Drawing&DocLang=English; ComponentLink1Description: http://www.te.com/commerce/DocumentDelivery/DDEController?Action=srchrtrv&DocNm=1825910&DocType=Customer+Drawing&DocLang=English; Value: TE Connectivity Alcoswitch Switches 1825910-6
pins: 1, 2, 3, 4

## ThinPot
designator U?  Supplier Part Number 1: 744-TSP-L-00501033ST  (hidden comment: ThinPot)
Flex Sensor 50mm; Manufacturer: Spectra Symbol; Manufacturer Part Number: TSP-L-0050-103-3%-ST; Linearity: +/- 3 %; Output Type: Resistive; Resistance Range: 10 kOhms; Tolerance: 20 %; Voltage Rating: 500 VAC; Supplier 1: Mouser; RoHS: RoHS Compliant; Category: Industrial Motion & Position Sensors; Stock 1: 25; Pricing 1: 1=4.05, 10=3.74, 25=3.44, 50=3.24, 100=3.12, 250=3.04, 500=2.94, 1000=2.89 (USD); Packaging: Bulk; Product: Position Sensor; Temperature Range: - 40 C to + 50 C; Type: Linear Position Sensor; Brand: Spectra Symbol; Mounting Style: Solder; Maximum Operating Temperature: + 50 C; RoHS - Mouser: Y; Minimum Order Quantity: 1; Reeling: False; ComponentLink1URL: http://www.mouser.com/ds/2/381/THINPOT_DATASHEET_REV_A1-198384.pdf; ComponentLink1Description: http://www.mouser.com/ds/2/381/THINPOT_DATASHEET_REV_A1-198384.pdf; Value: ThinPot
pins: 1 GND, 2 Collector, 3 V+
text: 10K

## ThinPot2
designator U?  Supplier Part Number 1: 744-TSP-L-00251033ST  (hidden comment: ThinPot2)
Flex Sensor 25mm; Manufacturer: Spectra Symbol; Manufacturer Part Number: TSP-L-0025-103-3%-ST; Linearity: +/- 3 %; Output Type: Resistive; Resistance Range: 10 kOhms; Tolerance: 20 %; Voltage Rating: 500 VAC; Supplier 1: Mouser; RoHS: RoHS Compliant; Category: Industrial Motion & Position Sensors; Stock 1: 26; Pricing 1: 1=3.44, 10=3.17, 25=2.92, 50=2.75, 100=2.65, 250=2.58, 500=2.50, 1000=2.45 (USD); Packaging: Tray; Product: Position Sensor; Temperature Range: - 40 C to + 50 C; Type: Linear Position Sensor; Brand: Spectra Symbol; Mounting Style: Solder; Maximum Operating Temperature: + 50 C; RoHS - Mouser: Y; Minimum Order Quantity: 1; Reeling: False; ComponentLink1URL: http://www.mouser.com/ds/2/381/THINPOT_DATASHEET_REV_A1-198384.pdf; ComponentLink1Description: http://www.mouser.com/ds/2/381/THINPOT_DATASHEET_REV_A1-198384.pdf; Value: ThinPot2
pins: 1 GND, 2 Collector, 3 V+
text: 10K

## TPS54427
designator U?  Supplier Part Number 1: 296-30033-1-ND  (hidden comment: TPS54427)
4A Regulator for Servos; Manufacturer: Texas Instruments; Manufacturer Part Number: TPS54427DDAR; Function: Step-Down; Output Configuration: Positive; Topology: Buck; Output Type: Adjustable; Number of Outputs: 1; Voltage - Input (Min): 4.5V; Voltage - Input (Max): 18V; Voltage - Output (Min/Fixed): 0.76V; Voltage - Output (Max): 7V; Frequency - Switching: 650kHz; Synchronous Rectifier: Yes; Supplier 1: Digi-Key; RoHS: RoHS Compliant; Category: Integrated Circuits (ICs); Stock 1: 7754; Pricing 1: 1=2.07, 10=1.856, 100=1.4892, 500=1.224, 1000=1.0132 (USD); Packaging: Cut Tape (CT); Current - Output: 4A; Operating Temperature: -40°C ~ 85°C (TA); Mounting Type: Surface Mount; Package / Case: 8-SOIC (0.154", 3.90mm Width) Exposed Pad; Supplier Device Package: 8-SO PowerPad; ComponentLink1URL: http://www.ti.com/lit/ds/symlink/tps54427.pdf; ComponentLink1Description: http://www.ti.com/lit/ds/symlink/tps54427.pdf; Value: TPS54427
footprint SOIC127P600X170_HS-9N (SOIC, 8-Leads, Body 4.90x3.90mm, Pitch 1.27mm, Thermal Pad 3.10x2.40mm, IPC Medium Density)
pins: 1 EN (in), 2 VFB (in), 3 VREG5, 4 SS (in), 5 GND, 6 SW, 7 VBST (in), 8 VIN (in)

## TPS54540
designator U?  Supplier Part Number 1: 296-36231-5-ND  (hidden comment: TPS54540)
5A Regulator for DC Motors; Manufacturer: Texas Instruments; Manufacturer Part Number: TPS54540DDA; Function: Step-Down; Output Configuration: Positive; Topology: Buck, Split Rail; Output Type: Adjustable; Number of Outputs: 1; Voltage - Input (Min): 4.5V; Voltage - Input (Max): 42V; Voltage - Output (Min/Fixed): 0.8V; Voltage - Output (Max): 41.1V; Frequency - Switching: 100kHz ~ 2.5MHz; Synchronous Rectifier: No; Supplier 1: Digi-Key; RoHS: RoHS Compliant; Category: Integrated Circuits (ICs); Stock 1: 1735; Pricing 1: 1=5.58, 10=5.012, 100=4.1067, 500=3.49596, 1000=2.6325 (USD); Packaging: Tube; Current - Output: 5A; Operating Temperature: -40°C ~ 150°C (TJ); Mounting Type: Surface Mount; Package / Case: 8-SOIC (0.154", 3.90mm Width) Exposed Pad; Supplier Device Package: 8-SO PowerPad; ComponentLink1URL: http://www.ti.com/lit/ds/symlink/tps54540.pdf; ComponentLink1Description: http://www.ti.com/lit/ds/symlink/tps54540.pdf; Value: TPS54540
footprint SOIC127P600X170_HS-9N_5A (SOIC, 8-Leads, Body 4.90x3.90mm, Pitch 1.27mm, Thermal Pad 3.10x2.40mm, IPC Medium Density)
pins: 1 BOOT (out), 2 VIN (in), 3 EN (in), 4 RT/CLK (in), 5 FB (in), 6 COMP (out), 7 GND, 8 SW (in)

## WS2812B-MA
designator U?, comment NeoPixel
LED RGB WS2812B; Manufacturer: Adafruit Industries LLC; Manufacturer Part Number: 1655; Supplier 1: Digi-Key; Supplier Part Number 1: 1528-1104-ND; RoHS: RoHS Compliant; Category: Optoelectronics; Stock 1: 672; Pricing 1: 1=4.5, 10=4.05 (USD); ComponentLink1URL: http://www.adafruit.com/datasheets/WS2812B.pdf; ComponentLink1Description: http://www.adafruit.com/datasheets/WS2812B.pdf
footprint WS2812B
pins: 1 VSS (power) "Power Supply", 2 DIN (in) "Control data signal output", 3 VDD (power) "Ground", 4 DOUT (out) "Control data signal input"